# EAGLE library part STP16DP05MTR (library NSL)
STP16DP05MTR LED Drivers 16-Bit LED Sink w/output error
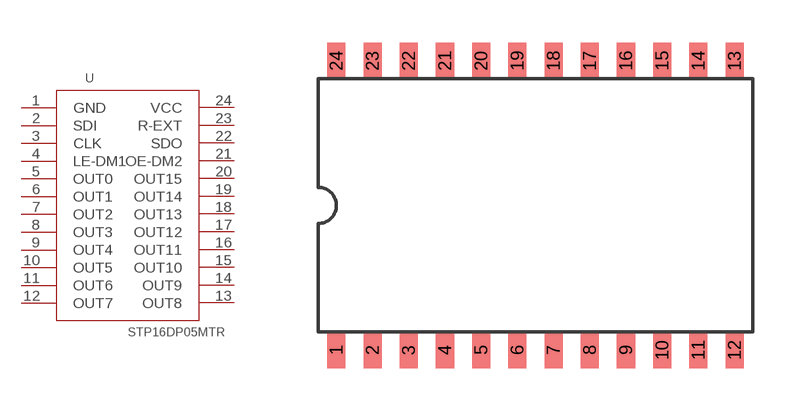
[diagram p3: symbol with the pads of STP16DP05MTR; footprint STP16DP05MTR]

Designator prefix -

## STP16DP05MTR  [STP16DP05MTR]
1  GND  pas
2  SDI  pas
3  CLK  pas
4  LE-DM1  pas
5  OUT0  pas
6  OUT1  pas
7  OUT2  pas
8  OUT3  pas
9  OUT4  pas
10  OUT5  pas
11  OUT6  pas
12  OUT7  pas
13  OUT8  pas
14  OUT9  pas
15  OUT10  pas
16  OUT11  pas
17  OUT12  pas
18  OUT13  pas
19  OUT14  pas
20  OUT15  pas
21  OE-DM2  pas
22  SDO  pas
23  R-EXT  pas
24  VCC  pas

## Footprint STP16DP05MTR (pad centres in mm)
smd 0.635 x 1.27: 1 -7.62,-5.08; 2 -6.35,-5.08; 3 -5.08,-5.08; 4 -3.81,-5.08; 5 -2.54,-5.08; 6 -1.27,-5.08; 7 0,-5.08; 8 1.27,-5.08; 9 2.54,-5.08; 10 3.81,-5.08; 11 5.08,-5.08; 12 6.35,-5.08; 13 6.35,5.08; 14 5.08,5.08; 15 3.81,5.08; 16 2.54,5.08; 17 1.27,5.08; 18 0,5.08; 19 -1.27,5.08; 20 -2.54,5.08; 21 -3.81,5.08; 22 -5.08,5.08; 23 -6.35,5.08; 24 -7.62,5.08